# EAGLE library part ADAU1592 (library ADS1115DGS)
Class-D Audio Power Amplifier Source: http://www.analog.com/static/imported-files/data_sheets/ADAU1592.pdf
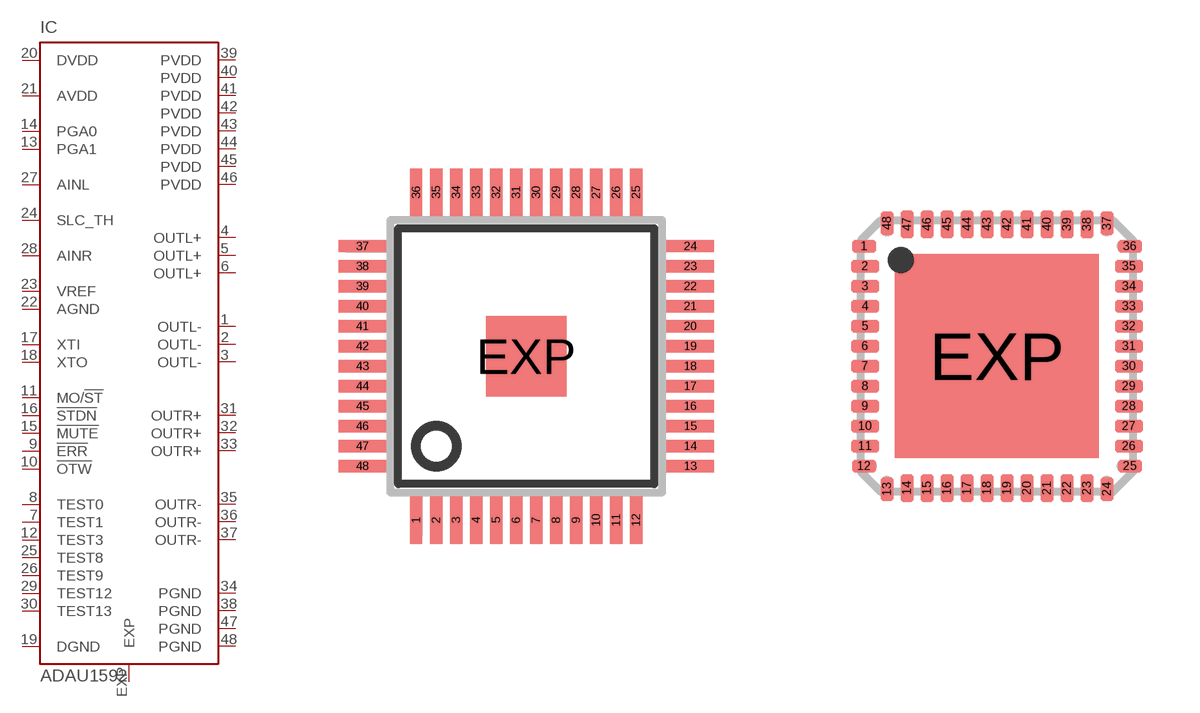
[diagram p125: symbol with the pads of QFP-7X7-48; footprints QFP-7X7-48, LFCSP48]

Designator prefix IC

## ADAU1592SV (OC_FARNELL: 1498683; OC_NEWARK: unknown)  [QFP-7X7-48]
1  OUTL-  pas
2  OUTL-  out
3  OUTL-  pas
4  OUTL+  pas
5  OUTL+  out
6  OUTL+  pas
7  TEST1  in
8  TEST0  in
9  !ERR  out
10  !OTW  out
11  MO/!ST  in
12  TEST3  in
13  PGA1  in
14  PGA0  in
15  !MUTE  in
16  !STDN  in
17  XTI  in
18  XTO  out
19  DGND  in
20  DVDD  in
21  AVDD  in
22  AGND  in
23  VREF  in
24  SLC_TH  in
25  TEST8  in
26  TEST9  in
27  AINL  in
28  AINR  in
29  TEST12  in
30  TEST13  in
31  OUTR+  pas
32  OUTR+  out
33  OUTR+  pas
34  PGND  in
35  OUTR-  pas
36  OUTR-  out
37  OUTR-  pas
38  PGND  in
39  PVDD  in
40  PVDD  in
41  PVDD  in
42  PVDD  in
43  PVDD  in
44  PVDD  in
45  PVDD  in
46  PVDD  in
47  PGND  in
48  PGND  in
EXP  EXP  pas

## ADAU1592CP (MPN: ADAU1592ACPZ; OC_FARNELL: 1498683; OC_NEWARK: 50M0756)  [LFCSP48]
Pads as for QFP-7X7-48

## Footprint QFP-7X7-48 (pad centres in mm)
TQFP48 7x7 Thin Plastic Quad Flat Package, Exposed Pad, TQFP/EP Source: www.analog.com/UploadedFiles/Data_Sheets/33830397585263AD9859_0.pdf
smd 0.3 x 1.2: 1 -2.75,-4.1; 2 -2.25,-4.1; 3 -1.75,-4.1; 4 -1.25,-4.1; 5 -0.75,-4.1; 6 -0.25,-4.1; 7 0.25,-4.1; 8 0.75,-4.1; 9 1.25,-4.1; 10 1.75,-4.1; 11 2.25,-4.1; 12 2.75,-4.1; 25 2.75,4.1; 26 2.25,4.1; 27 1.75,4.1; 28 1.25,4.1; 29 0.75,4.1; 30 0.25,4.1; 31 -0.25,4.1; 32 -0.75,4.1; 33 -1.25,4.1; 34 -1.75,4.1; 35 -2.25,4.1; 36 -2.75,4.1
smd 1.2 x 0.3: 13 4.1,-2.75; 14 4.1,-2.25; 15 4.1,-1.75; 16 4.1,-1.25; 17 4.1,-0.75; 18 4.1,-0.25; 19 4.1,0.25; 20 4.1,0.75; 21 4.1,1.25; 22 4.1,1.75; 23 4.1,2.25; 24 4.1,2.75; 37 -4.1,2.75; 38 -4.1,2.25; 39 -4.1,1.75; 40 -4.1,1.25; 41 -4.1,0.75; 42 -4.1,0.25; 43 -4.1,-0.25; 44 -4.1,-0.75; 45 -4.1,-1.25; 46 -4.1,-1.75; 47 -4.1,-2.25; 48 -4.1,-2.75
smd 2 x 2: EXP 0,0

## Footprint LFCSP48 (pad centres in mm)
Lead Frame Chip Scale Package LFCSP CP-48 COMPLIANT TO JEDEC STANDARDS MO-220-VKKD-2 Source: http://www.analog.com/UploadedFiles/Data_Sheets/39780344872292AD7651_0.pdf
smd 0.6 x 0.32: 1 -3.325,2.75; 12 -3.325,-2.75; 25 3.325,-2.75; 36 3.325,2.75
smd 0.7 x 0.32: 2 -3.3,2.25; 3 -3.3,1.75; 4 -3.3,1.25; 5 -3.3,0.75; 6 -3.3,0.25; 7 -3.3,-0.25; 8 -3.3,-0.75; 9 -3.3,-1.25; 10 -3.3,-1.75; 11 -3.3,-2.25; 26 3.3,-2.25; 27 3.3,-1.75; 28 3.3,-1.25; 29 3.3,-0.75; 30 3.3,-0.25; 31 3.3,0.25; 32 3.3,0.75; 33 3.3,1.25; 34 3.3,1.75; 35 3.3,2.25
smd 0.32 x 0.6: 13 -2.75,-3.325; 24 2.75,-3.325; 37 2.75,3.325; 48 -2.75,3.325
smd 0.32 x 0.7: 14 -2.25,-3.3; 15 -1.75,-3.3; 16 -1.25,-3.3; 17 -0.75,-3.3; 18 -0.25,-3.3; 19 0.25,-3.3; 20 0.75,-3.3; 21 1.25,-3.3; 22 1.75,-3.3; 23 2.25,-3.3; 38 2.25,3.3; 39 1.75,3.3; 40 1.25,3.3; 41 0.75,3.3; 42 0.25,3.3; 43 -0.25,3.3; 44 -0.75,3.3; 45 -1.25,3.3; 46 -1.75,3.3; 47 -2.25,3.3
smd 5.1 x 5.1: EXP 0,0